# Altium footprint library Package_CSP.PcbLib: 178 footprints (part 6 of 12)
Each footprint in its own frame and in the unit in brackets; x right, y up, seen from the top. Pads: shape width x height; smd on the part's side, far side on the other; paste and mask are expansions set on the pad; w line width, h text height; cw(c..) or ccw(c..) is an arc to the next point about the centre after c.
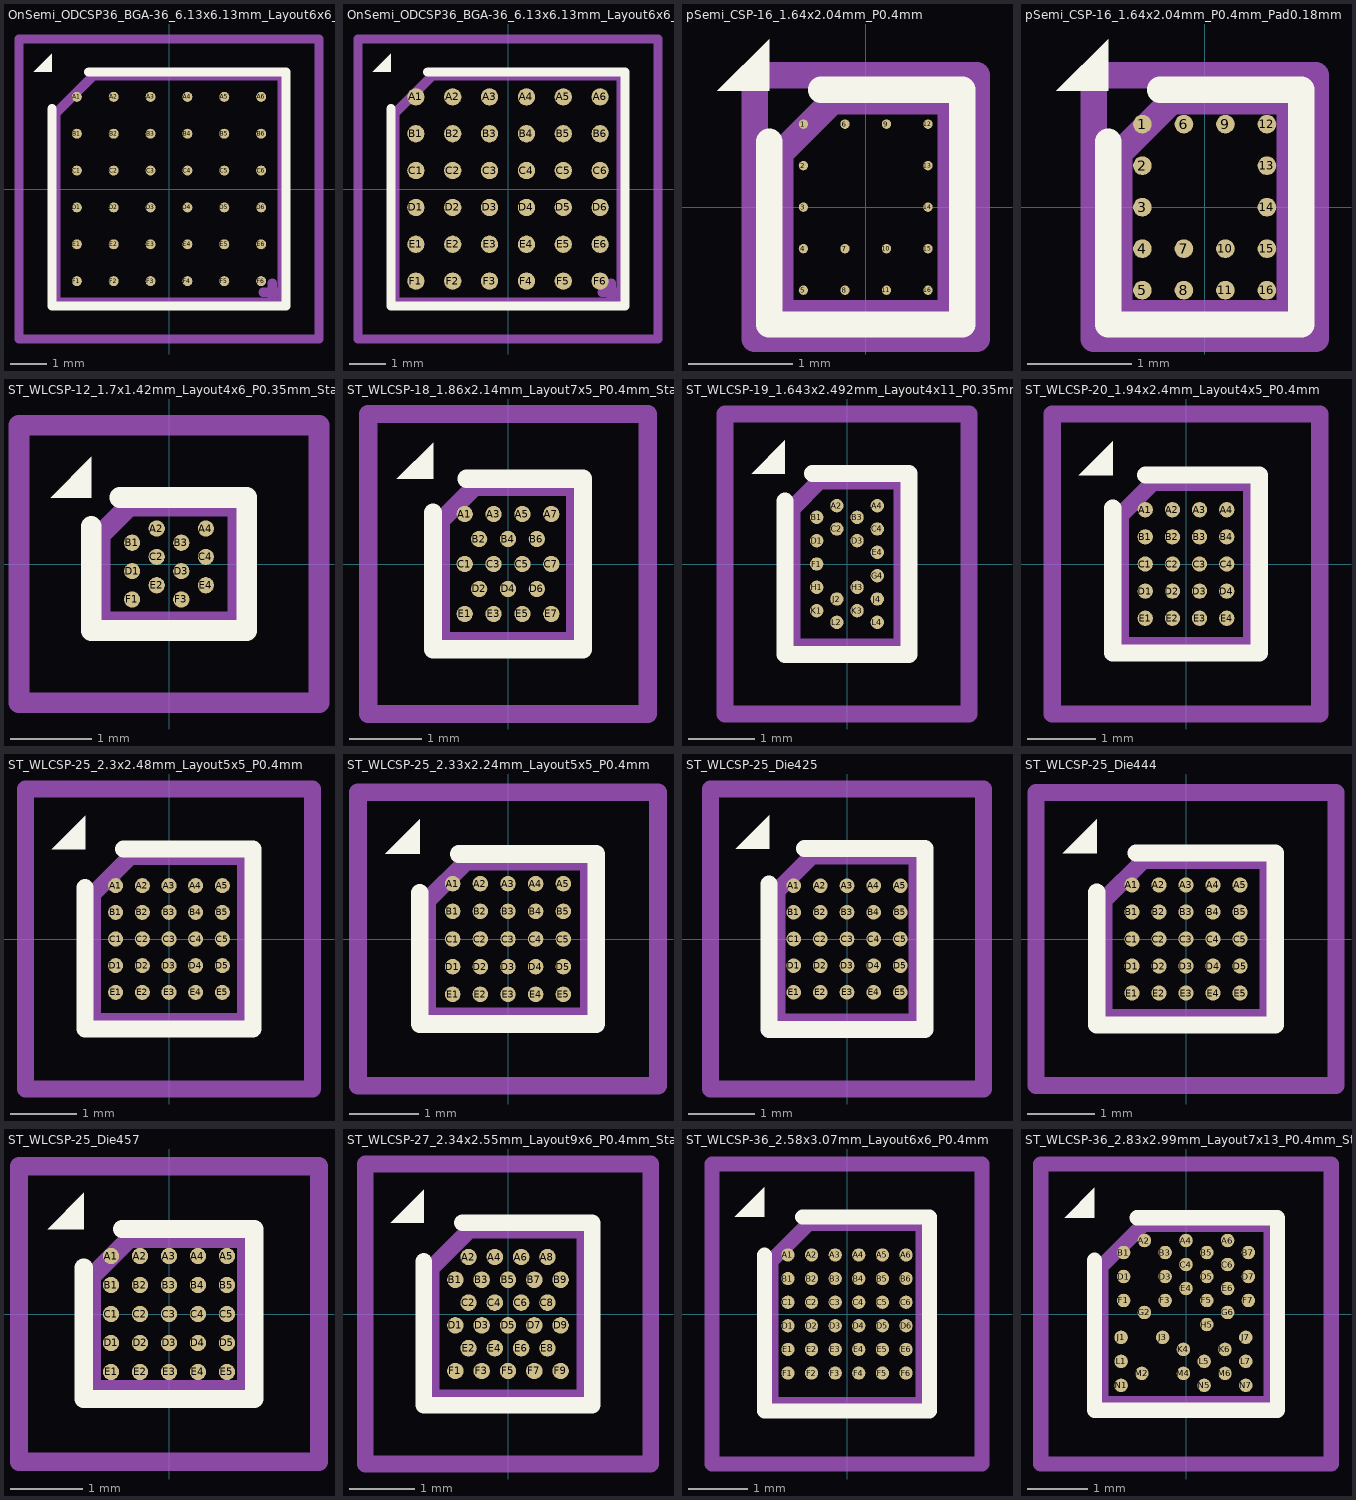
[diagram p5: the footprints below, top view; thin cyan lines are the x and y axes]

## OnSemi_ODCSP36_BGA-36_6.13x6.13mm_Layout6x6_P1.0mm [mm]
pads (36):
  round 0.27 smd: A1(-2.5,2.5) A2(-1.5,2.5) A3(-0.5,2.5) A4(0.5,2.5) A5(1.5,2.5) A6(2.5,2.5) B1(-2.5,1.5) B2(-1.5,1.5) B3(-0.5,1.5) B4(0.5,1.5) B5(1.5,1.5) B6(2.5,1.5) C1(-2.5,0.5) C2(-1.5,0.5) C3(-0.5,0.5) C4(0.5,0.5) C5(1.5,0.5) C6(2.5,0.5) D1(-2.5,-0.5) D2(-1.5,-0.5) D3(-0.5,-0.5) D4(0.5,-0.5) D5(1.5,-0.5) D6(2.5,-0.5) E1(-2.5,-1.5) E2(-1.5,-1.5) E3(-0.5,-1.5) E4(0.5,-1.5) E5(1.5,-1.5) E6(2.5,-1.5) F1(-2.5,-2.5) F2(-1.5,-2.5) F3(-0.5,-2.5) F4(0.5,-2.5) F5(1.5,-2.5) F6(2.5,-2.5)
F.SilkS:
  region: -3.175,3.175 -3.675,3.175 -3.175,3.675
  lines w0.254: -3.175,2.175 -3.175,-3.175 3.175,-3.175 3.175,3.175 -2.175,3.175
Top Assembly:
  lines w0.254: -3.065,-3.065 3.065,-3.065 3.065,3.065 -2.065,3.065 -3.065,2.065 -3.065,-3.065
  text "'.Designator'" at -4.047,-0.84 h1
Top Courtyard:
  lines w0.254: -4.07,-4.07 4.07,-4.07 4.07,4.07 -4.07,4.07 -4.07,-4.07
Top Designator:
  text ".Designator" at -7.618,-0.508 h1.52
Cmts.User:
  lines w0.254: 2.55,-2.8 3.05,-2.8 ; 2.8,-3.05 2.8,-2.55

## OnSemi_ODCSP36_BGA-36_6.13x6.13mm_Layout6x6_P1.0mm_ManualAssembly [mm]
pads (36):
  round 0.47 smd: A1(-2.5,2.5) A2(-1.5,2.5) A3(-0.5,2.5) A4(0.5,2.5) A5(1.5,2.5) A6(2.5,2.5) B1(-2.5,1.5) B2(-1.5,1.5) B3(-0.5,1.5) B4(0.5,1.5) B5(1.5,1.5) B6(2.5,1.5) C1(-2.5,0.5) C2(-1.5,0.5) C3(-0.5,0.5) C4(0.5,0.5) C5(1.5,0.5) C6(2.5,0.5) D1(-2.5,-0.5) D2(-1.5,-0.5) D3(-0.5,-0.5) D4(0.5,-0.5) D5(1.5,-0.5) D6(2.5,-0.5) E1(-2.5,-1.5) E2(-1.5,-1.5) E3(-0.5,-1.5) E4(0.5,-1.5) E5(1.5,-1.5) E6(2.5,-1.5) F1(-2.5,-2.5) F2(-1.5,-2.5) F3(-0.5,-2.5) F4(0.5,-2.5) F5(1.5,-2.5) F6(2.5,-2.5)
F.SilkS:
  region: -3.175,3.175 -3.675,3.175 -3.175,3.675
  lines w0.254: -3.175,2.175 -3.175,-3.175 3.175,-3.175 3.175,3.175 -2.175,3.175
Top Assembly:
  lines w0.254: -3.065,-3.065 3.065,-3.065 3.065,3.065 -2.065,3.065 -3.065,2.065 -3.065,-3.065
  text "'.Designator'" at -4.047,-0.84 h1
Top Courtyard:
  lines w0.254: -4.07,-4.07 4.07,-4.07 4.07,4.07 -4.07,4.07 -4.07,-4.07
Top Designator:
  text ".Designator" at -7.618,-0.508 h1.52
Cmts.User:
  lines w0.254: 2.55,-2.8 3.05,-2.8 ; 2.8,-3.05 2.8,-2.55

## pSemi_CSP-16_1.64x2.04mm_P0.4mm [mm]
pads (16):
  round 0.09 smd: 1(-0.6,0.8) 2(-0.6,0.4) 3(-0.6,0) 4(-0.6,-0.4) 5(-0.6,-0.8) 6(-0.2,0.8) 7(-0.2,-0.4) 8(-0.2,-0.8) 9(0.2,0.8) 10(0.2,-0.4) 11(0.2,-0.8) 12(0.6,0.8) 13(0.6,0.4) 14(0.6,0) 15(0.6,-0.4) 16(0.6,-0.8)
F.SilkS:
  region: -0.93,1.12 -1.43,1.12 -0.93,1.62
  lines w0.254: -0.93,0.63 -0.93,-1.13 0.93,-1.13 0.93,1.13 -0.43,1.13
Top Assembly:
  lines w0.254: -0.82,-1.02 0.82,-1.02 0.82,1.02 -0.32,1.02 -0.82,0.52 -0.82,-1.02
  text "'.Designator'" at 0.415,-2.018 h0.5
Top Courtyard:
  lines w0.254: -1.07,-1.27 1.07,-1.27 1.07,1.27 -1.07,1.27 -1.07,-1.27
Top Designator:
  text ".Designator" at -7.734,-0.578 h1.52

## pSemi_CSP-16_1.64x2.04mm_P0.4mm_Pad0.18mm [mm]
pads (16):
  round 0.18 smd: 1(-0.6,0.8) 2(-0.6,0.4) 3(-0.6,0) 4(-0.6,-0.4) 5(-0.6,-0.8) 6(-0.2,0.8) 7(-0.2,-0.4) 8(-0.2,-0.8) 9(0.2,0.8) 10(0.2,-0.4) 11(0.2,-0.8) 12(0.6,0.8) 13(0.6,0.4) 14(0.6,0) 15(0.6,-0.4) 16(0.6,-0.8)
F.SilkS:
  region: -0.93,1.12 -1.43,1.12 -0.93,1.62
  lines w0.254: -0.93,0.63 -0.93,-1.13 0.93,-1.13 0.93,1.13 -0.43,1.13
Top Assembly:
  lines w0.254: -0.82,-1.02 0.82,-1.02 0.82,1.02 -0.32,1.02 -0.82,0.52 -0.82,-1.02
  text "'.Designator'" at 0.415,-2.018 h0.5
Top Courtyard:
  lines w0.254: -1.07,-1.27 1.07,-1.27 1.07,1.27 -1.07,1.27 -1.07,-1.27
Top Designator:
  text ".Designator" at -7.734,-0.578 h1.52

## ST_WLCSP-12_1.7x1.42mm_Layout4x6_P0.35mm_Stagger [mm]
pads (12):
  round 0.2 smd: A2(-0.152,0.437) A4(0.455,0.437) B1(-0.455,0.262) B3(0.152,0.262) C2(-0.152,0.088) C4(0.455,0.088) D1(-0.455,-0.088) D3(0.152,-0.088) E2(-0.152,-0.262) E4(0.455,-0.262) F1(-0.455,-0.437) F3(0.152,-0.437)
F.SilkS:
  region: -0.96,0.82 -1.46,0.82 -0.96,1.32
  lines w0.254: -0.96,0.465 -0.96,-0.82 0.96,-0.82 0.96,0.82 -0.605,0.82
Top Assembly:
  lines w0.254: -0.85,-0.71 0.85,-0.71 0.85,0.71 -0.495,0.71 -0.85,0.355 -0.85,-0.71
  text "'.Designator'" at -1.619,-0.336 h0.4
Top Courtyard:
  lines w0.254: -1.85,-1.71 1.85,-1.71 1.85,1.71 -1.85,1.71 -1.85,-1.71
Top Designator:
  text ".Designator" at -7.618,-0.508 h1.52

## ST_WLCSP-18_1.86x2.14mm_Layout7x5_P0.4mm_Stagger [mm]
pads (18):
  round 0.225 smd: A1(-0.6,0.693) A3(-0.2,0.693) A5(0.2,0.693) A7(0.6,0.693) B2(-0.4,0.346) B4(0,0.346) B6(0.4,0.346) C1(-0.6,0) C3(-0.2,0) C5(0.2,0) C7(0.6,0) D2(-0.4,-0.346) D4(0,-0.346) D6(0.4,-0.346) E1(-0.6,-0.693) E3(-0.2,-0.693) E5(0.2,-0.693) E7(0.6,-0.693)
F.SilkS:
  region: -1.04,1.18 -1.54,1.18 -1.04,1.68
  lines w0.254: -1.04,0.715 -1.04,-1.18 1.04,-1.18 1.04,1.18 -0.575,1.18
Top Assembly:
  lines w0.254: -0.93,-1.07 0.93,-1.07 0.93,1.07 -0.465,1.07 -0.93,0.605 -0.93,-1.07
  text "'.Designator'" at -0.42,2.023 h0.5
Top Courtyard:
  lines w0.254: -1.94,-2.08 1.94,-2.08 1.94,2.08 -1.94,2.08 -1.94,-2.08
Top Designator:
  text ".Designator" at -7.618,-0.508 h1.52

## ST_WLCSP-19_1.643x2.492mm_Layout4x11_P0.35mm_Stagger [mm]
pads (19):
  round 0.2 smd: A2(-0.152,0.875) A4(0.455,0.875) B1(-0.455,0.7) B3(0.152,0.7) C2(-0.152,0.525) C4(0.455,0.525) D1(-0.455,0.35) D3(0.152,0.35) E4(0.455,0.175) F1(-0.455,0) G4(0.455,-0.175) H1(-0.455,-0.35) H3(0.152,-0.35) J2(-0.152,-0.525) J4(0.455,-0.525) K1(-0.455,-0.7) K3(0.152,-0.7) L2(-0.152,-0.875) L4(0.455,-0.875)
F.SilkS:
  region: -0.931,1.356 -1.432,1.356 -0.931,1.856
  lines w0.254: -0.931,0.945 -0.931,-1.356 0.931,-1.356 0.931,1.356 -0.521,1.356
Top Assembly:
  lines w0.254: -0.821,-1.246 0.821,-1.246 0.821,1.246 -0.411,1.246 -0.821,0.835 -0.821,-1.246
  text "'.Designator'" at -0.487,2.347 h0.58
Top Courtyard:
  lines w0.254: -1.83,-2.25 1.83,-2.25 1.83,2.25 -1.83,2.25 -1.83,-2.25
Top Designator:
  text ".Designator" at -7.618,-0.479 h1.52

## ST_WLCSP-20_1.94x2.4mm_Layout4x5_P0.4mm [mm]
pads (20):
  round 0.225 smd: A1(-0.6,0.8) A2(-0.2,0.8) A3(0.2,0.8) A4(0.6,0.8) B1(-0.6,0.4) B2(-0.2,0.4) B3(0.2,0.4) B4(0.6,0.4) C1(-0.6,0) C2(-0.2,0) C3(0.2,0) C4(0.6,0) D1(-0.6,-0.4) D2(-0.2,-0.4) D3(0.2,-0.4) D4(0.6,-0.4) E1(-0.6,-0.8) E2(-0.2,-0.8) E3(0.2,-0.8) E4(0.6,-0.8)
F.SilkS:
  region: -1.08,1.31 -1.58,1.31 -1.08,1.81
  lines w0.254: -1.08,0.825 -1.08,-1.31 1.08,-1.31 1.08,1.31 -0.595,1.31
Top Assembly:
  lines w0.254: -0.97,-1.2 0.97,-1.2 0.97,1.2 -0.485,1.2 -0.97,0.715 -0.97,-1.2
  text "'.Designator'" at -0.471,2.266 h0.56
Top Courtyard:
  lines w0.254: -1.97,-2.21 1.97,-2.21 1.97,2.21 -1.97,2.21 -1.97,-2.21
Top Designator:
  text ".Designator" at -7.618,-0.501 h1.52

## ST_WLCSP-25_2.3x2.48mm_Layout5x5_P0.4mm [mm]
pads (25):
  round 0.225 smd: A1(-0.8,0.8) A2(-0.4,0.8) A3(0,0.8) A4(0.4,0.8) A5(0.8,0.8) B1(-0.8,0.4) B2(-0.4,0.4) B3(0,0.4) B4(0.4,0.4) B5(0.8,0.4) C1(-0.8,0) C2(-0.4,0) C3(0,0) C4(0.4,0) C5(0.8,0) D1(-0.8,-0.4) D2(-0.4,-0.4) D3(0,-0.4) D4(0.4,-0.4) D5(0.8,-0.4) E1(-0.8,-0.8) E2(-0.4,-0.8) E3(0,-0.8) E4(0.4,-0.8) E5(0.8,-0.8)
F.SilkS:
  region: -1.26,1.35 -1.76,1.35 -1.26,1.85
  lines w0.254: -1.26,0.775 -1.26,-1.35 1.26,-1.35 1.26,1.35 -0.685,1.35
Top Assembly:
  lines w0.254: -1.15,-1.24 1.15,-1.24 1.15,1.24 -0.575,1.24 -1.15,0.665 -1.15,-1.24
  text "'.Designator'" at -0.487,2.347 h0.58
Top Courtyard:
  lines w0.254: -2.15,-2.25 2.15,-2.25 2.15,2.25 -2.15,2.25 -2.15,-2.25
Top Designator:
  text ".Designator" at -7.618,-0.479 h1.52

## ST_WLCSP-25_2.33x2.24mm_Layout5x5_P0.4mm [mm]
pads (25):
  round 0.225 smd: A1(-0.8,0.8) A2(-0.4,0.8) A3(0,0.8) A4(0.4,0.8) A5(0.8,0.8) B1(-0.8,0.4) B2(-0.4,0.4) B3(0,0.4) B4(0.4,0.4) B5(0.8,0.4) C1(-0.8,0) C2(-0.4,0) C3(0,0) C4(0.4,0) C5(0.8,0) D1(-0.8,-0.4) D2(-0.4,-0.4) D3(0,-0.4) D4(0.4,-0.4) D5(0.8,-0.4) E1(-0.8,-0.8) E2(-0.4,-0.8) E3(0,-0.8) E4(0.4,-0.8) E5(0.8,-0.8)
F.SilkS:
  region: -1.275,1.23 -1.775,1.23 -1.275,1.73
  lines w0.254: -1.275,0.67 -1.275,-1.23 1.275,-1.23 1.275,1.23 -0.715,1.23
Top Assembly:
  lines w0.254: -1.165,-1.12 1.165,-1.12 1.165,1.12 -0.605,1.12 -1.165,0.56 -1.165,-1.12
  text "'.Designator'" at -2.185,-0.454 h0.54
Top Courtyard:
  lines w0.254: -2.17,-2.12 2.17,-2.12 2.17,2.12 -2.17,2.12 -2.17,-2.12
Top Designator:
  text ".Designator" at -7.618,-0.508 h1.52

## ST_WLCSP-25_Die425 [mm]
pads (25):
  round 0.22 smd: A1(-0.8,0.8) A2(-0.4,0.8) A3(0,0.8) A4(0.4,0.8) A5(0.8,0.8) B1(-0.8,0.4) B2(-0.4,0.4) B3(0,0.4) B4(0.4,0.4) B5(0.8,0.4) C1(-0.8,0) C2(-0.4,0) C3(0,0) C4(0.4,0) C5(0.8,0) D1(-0.8,-0.4) D2(-0.4,-0.4) D3(0,-0.4) D4(0.4,-0.4) D5(0.8,-0.4) E1(-0.8,-0.8) E2(-0.4,-0.8) E3(0,-0.8) E4(0.4,-0.8) E5(0.8,-0.8)
F.SilkS:
  region: -1.17,1.356 -1.67,1.356 -1.17,1.857
  lines w0.254: -1.17,0.827 -1.17,-1.356 1.17,-1.356 1.17,1.356 -0.64,1.356
Top Assembly:
  lines w0.254: -1.048,-1.246 1.048,-1.246 1.048,1.246 -0.524,1.246 -1.048,0.722 -1.048,-1.246
  text "'.Designator'" at -0.487,2.347 h0.58
Top Courtyard:
  lines w0.254: -2.05,-2.25 2.05,-2.25 2.05,2.25 -2.05,2.25 -2.05,-2.25
Top Designator:
  text ".Designator" at -7.618,-0.479 h1.52

## ST_WLCSP-25_Die444 [mm]
pads (25):
  round 0.225 smd: A1(-0.8,0.8) A2(-0.4,0.8) A3(0,0.8) A4(0.4,0.8) A5(0.8,0.8) B1(-0.8,0.4) B2(-0.4,0.4) B3(0,0.4) B4(0.4,0.4) B5(0.8,0.4) C1(-0.8,0) C2(-0.4,0) C3(0,0) C4(0.4,0) C5(0.8,0) D1(-0.8,-0.4) D2(-0.4,-0.4) D3(0,-0.4) D4(0.4,-0.4) D5(0.8,-0.4) E1(-0.8,-0.8) E2(-0.4,-0.8) E3(0,-0.8) E4(0.4,-0.8) E5(0.8,-0.8)
F.SilkS:
  region: -1.322,1.272 -1.822,1.272 -1.322,1.773
  lines w0.254: -1.322,0.691 -1.322,-1.272 1.322,-1.272 1.322,1.272 -0.74,1.272
Top Assembly:
  lines w0.254: -1.212,-1.162 1.212,-1.162 1.212,1.162 -0.63,1.162 -1.212,0.581 -1.212,-1.162
  text "'.Designator'" at -2.266,-0.471 h0.56
Top Courtyard:
  lines w0.254: -2.22,-2.17 2.22,-2.17 2.22,2.17 -2.22,2.17 -2.22,-2.17
Top Designator:
  text ".Designator" at -7.619,-0.508 h1.52

## ST_WLCSP-25_Die457 [mm]
pads (25):
  round 0.225 smd: A1(-0.8,0.8) A2(-0.4,0.8) A3(0,0.8) A4(0.4,0.8) A5(0.8,0.8) B1(-0.8,0.4) B2(-0.4,0.4) B3(0,0.4) B4(0.4,0.4) B5(0.8,0.4) C1(-0.8,0) C2(-0.4,0) C3(0,0) C4(0.4,0) C5(0.8,0) D1(-0.8,-0.4) D2(-0.4,-0.4) D3(0,-0.4) D4(0.4,-0.4) D5(0.8,-0.4) E1(-0.8,-0.8) E2(-0.4,-0.8) E3(0,-0.8) E4(0.4,-0.8) E5(0.8,-0.8)
F.SilkS:
  region: -1.177,1.172 -1.676,1.172 -1.177,1.673
  lines w0.254: -1.177,0.641 -1.177,-1.172 1.177,-1.172 1.177,1.172 -0.645,1.172
Top Assembly:
  lines w0.254: -1.067,-1.035 1.067,-1.035 1.067,1.035 -0.549,1.035 -1.067,0.517 -1.067,-1.035
  text "'.Designator'" at -2.023,-0.42 h0.5
Top Courtyard:
  lines w0.254: -2.07,-2.04 2.07,-2.04 2.07,2.04 -2.07,2.04 -2.07,-2.04
Top Designator:
  text ".Designator" at -7.618,-0.508 h1.52

## ST_WLCSP-27_2.34x2.55mm_Layout9x6_P0.4mm_Stagger [mm]
pads (27):
  round 0.25 smd: A2(-0.6,0.866) A4(-0.2,0.866) A6(0.2,0.866) A8(0.6,0.866) B1(-0.8,0.52) B3(-0.4,0.52) B5(0,0.52) B7(0.4,0.52) B9(0.8,0.52) C2(-0.6,0.173) C4(-0.2,0.173) C6(0.2,0.173) C8(0.6,0.173) D1(-0.8,-0.173) D3(-0.4,-0.173) D5(0,-0.173) D7(0.4,-0.173) D9(0.8,-0.173) E2(-0.6,-0.52) E4(-0.2,-0.52) E6(0.2,-0.52) E8(0.6,-0.52) F1(-0.8,-0.866) F3(-0.4,-0.866) F5(0,-0.866) F7(0.4,-0.866) F9(0.8,-0.866)
F.SilkS:
  region: -1.28,1.385 -1.78,1.385 -1.28,1.885
  lines w0.254: -1.28,0.8 -1.28,-1.385 1.28,-1.385 1.28,1.385 -0.695,1.385
Top Assembly:
  lines w0.254: -1.17,-1.275 1.17,-1.275 1.17,1.275 -0.585,1.275 -1.17,0.69 -1.17,-1.275
  text "'.Designator'" at -0.496,2.388 h0.59
Top Courtyard:
  lines w0.254: -2.17,-2.28 2.17,-2.28 2.17,2.28 -2.17,2.28 -2.17,-2.28
Top Designator:
  text ".Designator" at -7.618,-0.473 h1.52

## ST_WLCSP-36_2.58x3.07mm_Layout6x6_P0.4mm [mm]
pads (36):
  round 0.225 smd: A1(-1,1) A2(-0.6,1) A3(-0.2,1) A4(0.2,1) A5(0.6,1) A6(1,1) B1(-1,0.6) B2(-0.6,0.6) B3(-0.2,0.6) B4(0.2,0.6) B5(0.6,0.6) B6(1,0.6) C1(-1,0.2) C2(-0.6,0.2) C3(-0.2,0.2) C4(0.2,0.2) C5(0.6,0.2) C6(1,0.2) D1(-1,-0.2) D2(-0.6,-0.2) D3(-0.2,-0.2) D4(0.2,-0.2) D5(0.6,-0.2) D6(1,-0.2) E1(-1,-0.6) E2(-0.6,-0.6) E3(-0.2,-0.6) E4(0.2,-0.6) E5(0.6,-0.6) E6(1,-0.6) F1(-1,-1) F2(-0.6,-1) F3(-0.2,-1) F4(0.2,-1) F5(0.6,-1) F6(1,-1)
F.SilkS:
  region: -1.4,1.645 -1.9,1.645 -1.4,2.145
  lines w0.254: -1.4,1 -1.4,-1.645 1.4,-1.645 1.4,1.645 -0.755,1.645
Top Assembly:
  lines w0.254: -1.29,-1.535 1.29,-1.535 1.29,1.535 -0.645,1.535 -1.29,0.89 -1.29,-1.535
  text "'.Designator'" at -0.597,2.873 h0.71
Top Courtyard:
  lines w0.254: -2.29,-2.54 2.29,-2.54 2.29,2.54 -2.29,2.54 -2.29,-2.54
Top Designator:
  text ".Designator" at -7.618,-0.401 h1.52

## ST_WLCSP-36_2.83x2.99mm_Layout7x13_P0.4mm_Stagger_Offcenter [mm]
pads (36):
  round 0.225 smd: A2(-0.693,1.225) A4(0,1.225) A6(0.693,1.225) B1(-1.039,1.025) B3(-0.346,1.025) B5(0.346,1.025) B7(1.039,1.025) C4(0,0.825) C6(0.693,0.825) D1(-1.039,0.625) D3(-0.346,0.625) D5(0.346,0.625) D7(1.039,0.625) E4(0,0.425) E6(0.693,0.425) F1(-1.039,0.225) F3(-0.346,0.225) F5(0.346,0.225) F7(1.039,0.225) G2(-0.693,0.025) G6(0.693,0.025) H5(0.346,-0.175) J1(-1.082,-0.39) J3(-0.389,-0.39) J7(0.996,-0.39) K4(-0.043,-0.59) K6(0.65,-0.59) L1(-1.082,-0.79) L5(0.303,-0.79) L7(0.996,-0.79) M2(-0.736,-0.99) M4(-0.043,-0.99) M6(0.65,-0.99) N1(-1.082,-1.19) N5(0.303,-1.19) N7(0.996,-1.19)
F.SilkS:
  region: -1.525,1.605 -2.025,1.605 -1.525,2.105
  lines w0.254: -1.525,0.897 -1.525,-1.605 1.525,-1.605 1.525,1.605 -0.817,1.605
Top Assembly:
  lines w0.254: -1.415,-1.495 1.415,-1.495 1.415,1.495 -0.707,1.495 -1.415,0.787 -1.415,-1.495
  text "'.Designator'" at -0.588,2.833 h0.7
Top Courtyard:
  lines w0.254: -2.42,-2.5 2.42,-2.5 2.42,2.5 -2.42,2.5 -2.42,-2.5
Top Designator:
  text ".Designator" at -7.618,-0.403 h1.52